# Altium schematic symbol library LM3480IM3-3.3_3V3_0A1.Schlib: 1 symbol
Pins are listed as number, name and electrical type; pins without a type are passive.

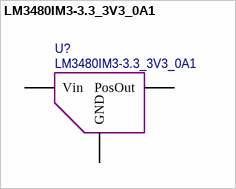
[diagram p0: symbol LM3480IM3-3.3_3V3_0A1]

## LM3480IM3-3.3_3V3_0A1
designator U?
pins: 1 PosOut, 2 Vin, 3 GND